# EAGLE library part DATABUS (library databus)
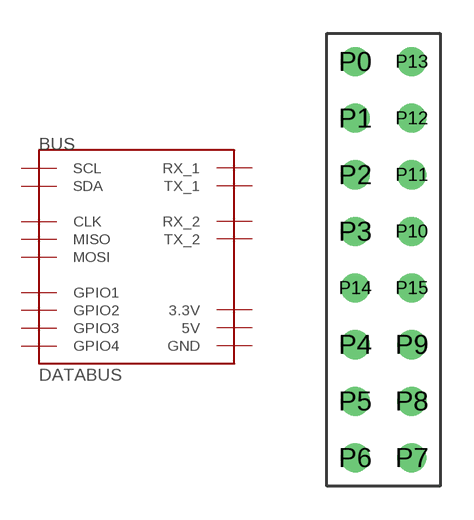
[diagram p0: symbol with the pads of 8X2; footprint 8X2]

Designator prefix BUS

## DATABUS  [8X2]
P0  SCL
P1  CLK
P2  MOSI
P3  GPIO1
P4  RX_1
P5  TX_1
P6  3.3V
P7  5V
P8  TX_2
P9  RX_2
P10  GPIO2
P11  GND
P12  MISO
P13  SDA
P14  GPIO3
P15  GPIO4

## Footprint 8X2 (pad centres in mm)
drill 0.8: P0 -1.27,7.62; P1 -1.27,5.08; P2 -1.27,2.54; P3 -1.27,0; P4 -1.27,-5.08; P5 -1.27,-7.62; P6 -1.27,-10.16; P7 1.27,-10.16; P8 1.27,-7.62; P9 1.27,-5.08; P10 1.27,0; P11 1.27,2.54; P12 1.27,5.08; P13 1.27,7.62; P14 -1.27,-2.54; P15 1.27,-2.54